# Altium schematic symbol library SMBJ33CA.SchLib: 1 symbol
Pins are listed as number, name and electrical type; pins without a type are passive.

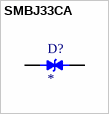
[diagram p0: symbol SMBJ33CA]

## SMBJ33CA
designator D?
MP: SMBJ33CA; MF: {'manufacturer': u'Littelfuse'}; Availability: Unavailable; Package: None; Value: *; Price: None
footprint DIOM4336X265N
pins: 1, 2